# Altium schematic symbol library EN5311Q1.SchLib: 2 symbols
Pins are listed as number, name and electrical type; pins without a type are passive.

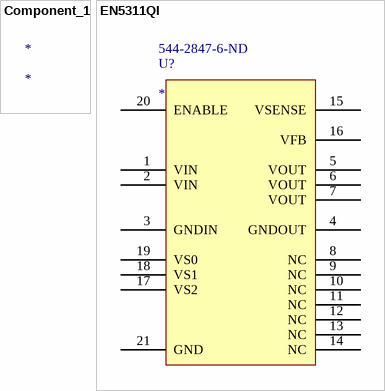
[diagram p0: symbols Component_1 to EN5311QI]

## Component_1
designator *

## EN5311QI
designator U?  Supplier Part Number 1: 544-2847-6-ND
Conv DC-DC 2.4V to 5.5V Step Down Single-Out 0.6V to 4.9V 1A 20-Pin QFN EP; Manufacturer: Altera; Manufacturer Part Number: EN5311QI; Number of Outputs: 1; Efficiency: 95%; Max Input Voltage: 6.6V; Voltage - Output 1: 6V; Max Power Dissipation: 6W; Supplier 1: Digikey; Stock 1: 7570; Pricing 1: 1=3.96, 25=3.15 (USD); Mount: Surface Mount; Case/Package: QFN EP; Number of Pins: 20; Min Operating Temperature: -40°C; Max Operating Temperature: 85°C; Output Voltage: 4.9V; Min Input Voltage: 2.4V; Max Output Current: 1A; Output Current: 1A; Package Quantity: 1; Packaging: Tape and Reel; Length: 0.2inch; Height: 0.04inch; Width: 0.16inch; Radiation Hardening: No; ComponentLink1URL: https://datasheet.ciiva.com/26927/getdatasheetpartid-755172-26927834.pdf; ComponentLink1Description: https://datasheet.ciiva.com/26927/getdatasheetpartid-755172-26927834.pdf; ComponentLink2URL: https://datasheet.ciiva.com/29378/en5311qi-03799-29378573.pdf; ComponentLink2Description: https://datasheet.ciiva.com/29378/en5311qi-03799-29378573.pdf; ComponentLink3URL: https://datasheet.ciiva.com/29378/en5311qi-03799-29378571.pdf; ComponentLink3Description: https://datasheet.ciiva.com/29378/en5311qi-03799-29378571.pdf
footprint QFN65P500X400X115_HS-21N (QFN, 20-Leads, Body 5.00x4.00mm, Pitch 0.65mm, Thermal Pad 3.30x2.25mm, IPC Medium Density)
pins: 1 VIN, 2 VIN, 3 GNDIN, 4 GNDOUT, 5 VOUT, 6 VOUT, 7 VOUT, 8 NC, 9 NC, 10 NC, 11 NC, 12 NC, 13 NC, 14 NC, 15 VSENSE, 16 VFB, 17 VS2, 18 VS1, 19 VS0, 20 ENABLE, 21 GND